# Altium schematic symbol library scehmatic.SchLib: 1 symbol
Pins are listed as number, name and electrical type; pins without a type are passive.

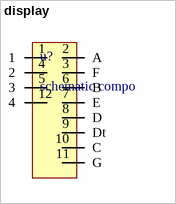
[diagram p0: symbol display]

## display
designator u?, comment schematic compo
7segment leddisplay
pins: 1, 2 A, 3 F, 4 2, 5 3, 6 B, 7 E, 8 D, 9 Dt, 10 C, 11 G, 12 4